# Altium footprint library Misc.PCBLIB: 58 footprints (part 4 of 4)
Each footprint in its own frame and in the unit in brackets; x right, y up, seen from the top. Pads: shape width x height; smd on the part's side, far side on the other; paste and mask are expansions set on the pad; w line width, h text height; cw(c..) or ccw(c..) is an arc to the next point about the centre after c.
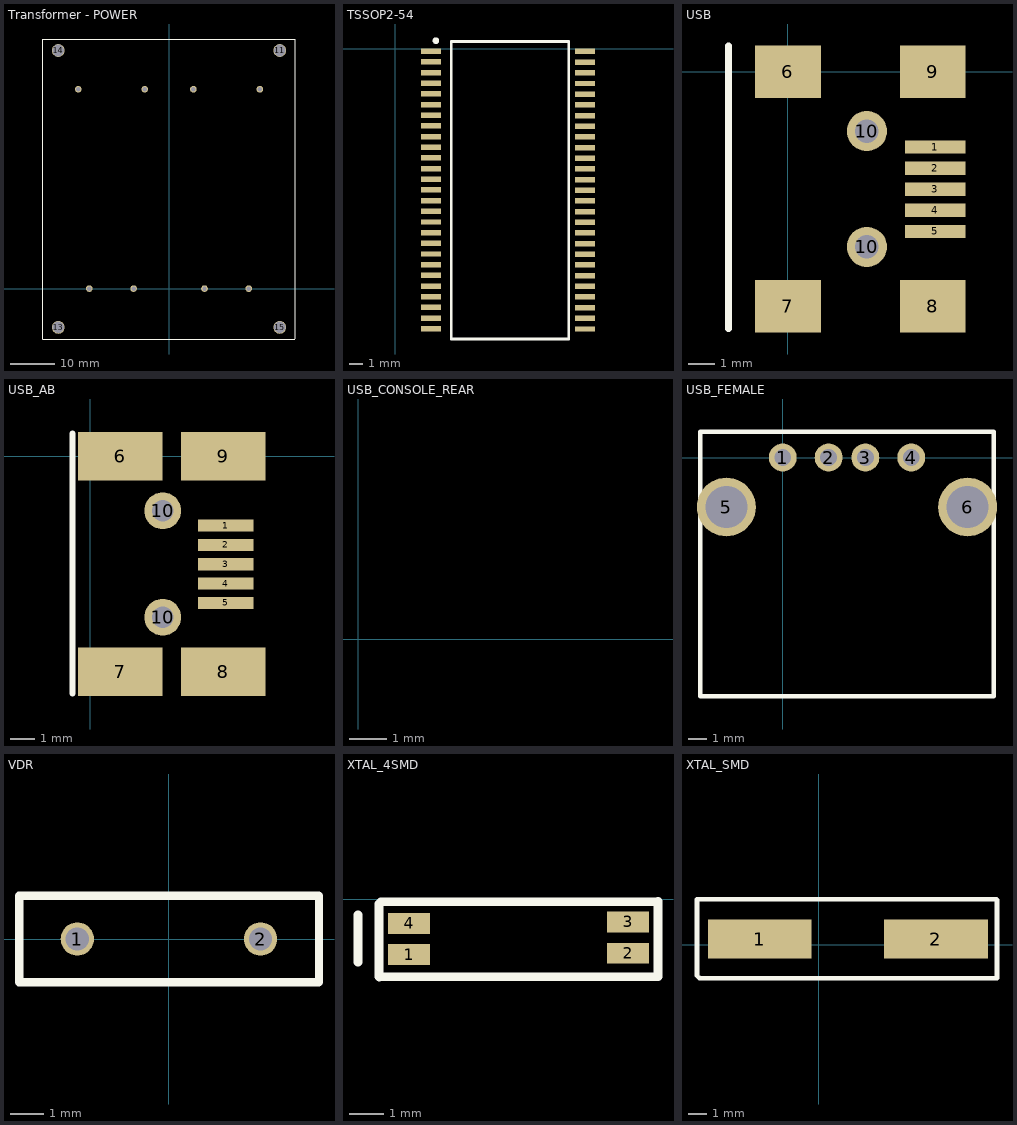
[diagram p3: the footprints below, top view; thin cyan lines are the x and y axes]

## Transformer - POWER [mm] "Power Supply"
pads (12):
  round 1.5 hole 1 mask+0: 1(-20.5,45) 2(-5.5,45) 3(5.5,45) 4(20.5,45) 5(-18,0) 6(-8,0) 7(8,0) 8(18,0)
  round 2.9 hole 2.6 mask+0: 11(25,53.75) 13(-25,-8.75) 14(-25,53.75) 15(25,-8.75)
Top Overlay:
  lines w0.254: -28.47,56.345 -28.47,-11.375 28.425,-11.375 ; -28.46,56.325 28.45,56.325 28.45,-11.365

## TSSOP2-54 [mm]
pads (54):
  rect 1.5x0.41 smd: 1(2.66,-0.19) 2(2.66,-0.99) 3(2.66,-1.79) 4(2.66,-2.59) 5(2.66,-3.39) 6(2.66,-4.19) 7(2.66,-4.99) 8(2.66,-5.79) 9(2.66,-6.59) 10(2.66,-7.39) 11(2.66,-8.19) 12(2.66,-8.99) 13(2.66,-9.79) 14(2.66,-10.59) 15(2.66,-11.39) 16(2.66,-12.19) 17(2.66,-12.99) 18(2.66,-13.79) 19(2.66,-14.59) 20(2.66,-15.39) 21(2.66,-16.19) 22(2.66,-16.99) 23(2.66,-17.79) 24(2.66,-18.59) 25(2.66,-19.39) 26(2.66,-20.19) 27(2.66,-20.99) 28(14.21,-21.01) 29(14.21,-20.21) 30(14.21,-19.41) 31(14.21,-18.61) 32(14.21,-17.81) 33(14.21,-17.01) 34(14.21,-16.21) 35(14.21,-15.41) 36(14.21,-14.61) 37(14.21,-13.81) 38(14.21,-13.01) 39(14.21,-12.21) 40(14.21,-11.41) 41(14.21,-10.61) 42(14.21,-9.81) 43(14.21,-9.01) 44(14.21,-8.21) 45(14.21,-7.41) 46(14.21,-6.61) 47(14.21,-5.81) 48(14.21,-5.01) 49(14.21,-4.21) 50(14.21,-3.41) 51(14.21,-2.61) 52(14.21,-1.81) 53(14.21,-1.01) 54(14.21,-0.21)
Top Overlay:
  circle w0.25: c3.03,0.6 r0.125
  lines w0.2: 4.18,-21.76 4.18,0.54 7.945,0.54 12.98,0.54 12.98,-21.76 4.18,-21.76

## USB [mm]
pads (11):
  rect 2.3x0.5 smd: 1(5.6,-2.86) 2(5.6,-3.66) 3(5.6,-4.46) 4(5.6,-5.26) 5(5.6,-6.06)
  rect 2.5x2 smd: 6(0,0) 7(0,-8.9) 8(5.5,-8.9) 9(5.5,0)
  round 1.524 hole 0.9: 10(3,-6.65) 10(3,-2.25)
Top Overlay:
  lines w0.254: -2.26,-9.76 -2.26,0.99

## USB_AB [mm]
pads (11):
  rect 2.3x0.5 smd: 1(5.6,-2.86) 2(5.6,-3.66) 3(5.6,-4.46) 4(5.6,-5.26) 5(5.6,-6.06)
  rect 3.5x2 smd: 6(1.25,0) 7(1.25,-8.9) 8(5.5,-8.9) 9(5.5,0)
  round 1.524 hole 0.9: 10(3,-6.65) 10(3,-2.25)
Top Overlay:
  lines w0.254: -0.73,-9.8 -0.73,0.95

## USB_CONSOLE_REAR [mm]
Multi-Layer:
  rectangle: 0,0 8,4

## USB_FEMALE [mm]
pads (6):
  round 1.524 hole 0.92: 1(0,0) 2(2.5,0) 3(4.5,0) 4(7,0)
  round 3.2 hole 2.3: 5(-3.07,-2.7) 6(10.07,-2.7)
Top Overlay:
  lines w0.254: -4.5,-13 -4.5,1.4 11.5,1.4 11.5,-13 -4.5,-13

## USB_FRONT [mm]

## VDR [mm]
pads (2):
  round 1 hole 0.7 mask+0: 1(-2.75,0) 2(2.75,0)
Top Overlay:
  lines w0.254: -4.5,-1.3 4.5,-1.3 ; -4.5,1.3 4.5,1.3 ; -4.495,-1.245 -4.495,1.265 ; 4.505,-1.26 4.505,1.25

## XTAL_4SMD [mm] "0.264\" L x 0.059\" W (6.70mm x 1.50mm"
pads (4):
  rect 1.2x0.6 smd: 1(-8.61,-1.6) 2(-2.31,-1.56) 3(-2.31,-0.66) 4(-8.61,-0.7)
Top Overlay:
  lines w0.254: -10.08,-1.81 -10.08,-0.45 ; -9.48,-2.23 -9.48,-0.14 ; -9.47,-2.24 -1.45,-2.23 -1.45,-0.07 -9.42,-0.08

## XTAL_SMD [mm]
pads (2):
  rect 5.6x2.1 smd: 1(-3.175,0.308) 2(6.35,0.308)
Top Overlay:
  lines w0.254: 9.62,2.45 -6.57,2.45 -6.57,-1.68 -6.43,-1.82 9.65,-1.82 9.65,2.42